# Altium schematic symbol library Speaker.Schlib: 1 symbol
Pins are listed as number, name and electrical type; pins without a type are passive.

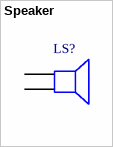
[diagram p0: symbol Speaker]

## Speaker
designator LS?
Loudspeaker
pins: 1, 2